# Altium footprint library Cout.PcbLib: 1 footprints
Each footprint in its own frame and in the unit in brackets; x right, y up, seen from the top. Pads: shape width x height; smd on the part's side, far side on the other; paste and mask are expansions set on the pad; w line width, h text height; cw(c..) or ccw(c..) is an arc to the next point about the centre after c.
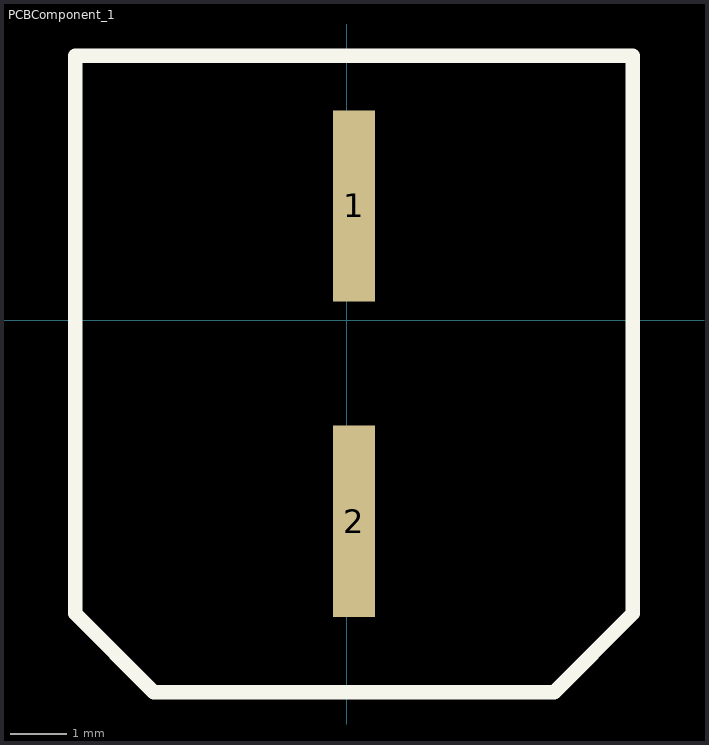
[diagram p0: the footprint, top view; thin cyan lines are the x and y axes]

## PCBComponent_1 [mm]
pads (2):
  rect 0.75x3.4 smd: 1(0.127,2.032) 2(0.127,-3.568)
Top Overlay:
  lines w0.254: -4.826,-5.207 -4.826,4.699 5.08,4.699 5.08,-5.207 3.683,-6.604 -3.429,-6.604 -4.826,-5.207
3D body "User Library-SMD Polymer Aluminum Electrolytic Capacitors E7.step": height 6.9, standoff -0.05, extent -4.064,-5.135 4.236,3.865